# EAGLE library part GPS-A2235-H (library selfmade)
Maestro A2235-H GPS Antenna Receiver Module. Available at e.g. Mouser or Farnell (Element14). Datasheet <http://www.specialty-designs.com/gpsmanual.pdf> Design according to User Manual V1.4. Noticable difference: older versions did not feature pins for an external antenna.
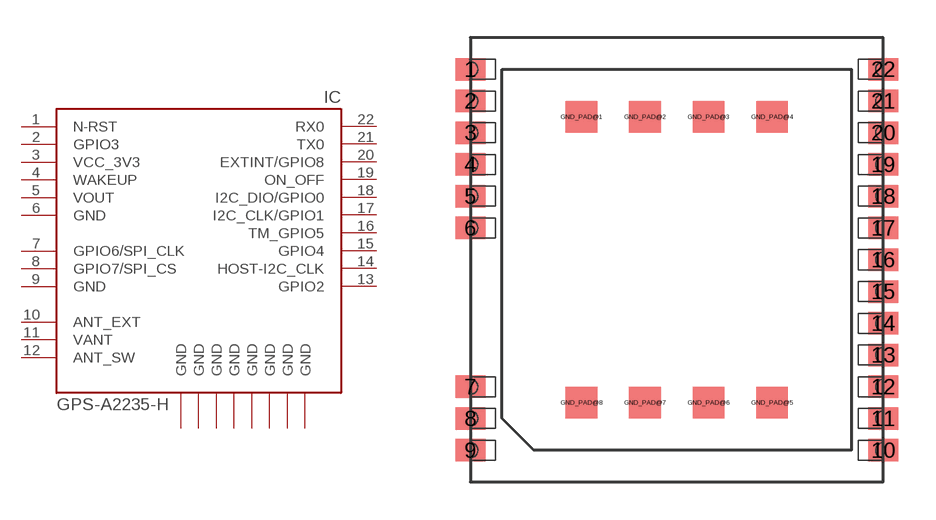
[diagram p17: symbol with the pads of GPS-A2235-H; footprint GPS-A2235-H]

Designator prefix IC

## GPS-A2235-H  [GPS-A2235-H]
1  N-RST  in
2  GPIO3  nc
3  VCC_3V3  pwr
4  WAKEUP  out
5  VOUT  sup
6  GND  pwr
7  GPIO6/SPI_CLK  in
8  GPIO7/SPI_CS  in
9  GND  pwr
10  ANT_EXT  in
11  VANT  pwr
12  ANT_SW  in
13  GPIO2  nc
14  HOST-I2C_CLK  in
15  GPIO4  in
16  TM_GPIO5  out
17  I2C_CLK/GPIO1
18  I2C_DIO/GPIO0
19  ON_OFF  in
20  EXTINT/GPIO8  in
21  TX0  out
22  RX0  in
GND_PAD@1  GND  pwr
GND_PAD@2  GND  pwr
GND_PAD@3  GND  pwr
GND_PAD@4  GND  pwr
GND_PAD@5  GND  pwr
GND_PAD@6  GND  pwr
GND_PAD@7  GND  pwr
GND_PAD@8  GND  pwr

## Footprint GPS-A2235-H (pad centres in mm)
Maestro A2235-H The outer pads are placed as per recommendation in the user manual, even though they seem a little bit too small for the module's pads (drawn in layer tPlace). Size of GPS Antenna approximate, not specified in the user manual.
smd 1.2 x 0.9: 1 -3.81,1.27; 2 -3.81,0; 3 -3.81,-1.27; 4 -3.81,-2.54; 5 -3.81,-3.81; 6 -3.81,-5.08; 7 -3.81,-11.43; 8 -3.81,-12.7; 9 -3.81,-13.97; 10 12.7,-13.97; 11 12.7,-12.7; 12 12.7,-11.43; 13 12.7,-10.16; 14 12.7,-8.89; 15 12.7,-7.62; 16 12.7,-6.35; 17 12.7,-5.08; 18 12.7,-3.81; 19 12.7,-2.54; 20 12.7,-1.27; 21 12.7,0; 22 12.7,1.27
smd 1.27 x 1.27: GND_PAD@1 0.635,-0.635; GND_PAD@2 3.175,-0.635; GND_PAD@3 5.715,-0.635; GND_PAD@4 8.255,-0.635; GND_PAD@5 8.255,-12.065; GND_PAD@6 5.715,-12.065; GND_PAD@7 3.175,-12.065; GND_PAD@8 0.635,-12.065